# Altium footprint library 2-Battery Holders.PcbLib: 20 footprints (part 2 of 2)
Each footprint in its own frame and in the unit in brackets; x right, y up, seen from the top. Pads: shape width x height; smd on the part's side, far side on the other; paste and mask are expansions set on the pad; w line width, h text height; cw(c..) or ccw(c..) is an arc to the next point about the centre after c.
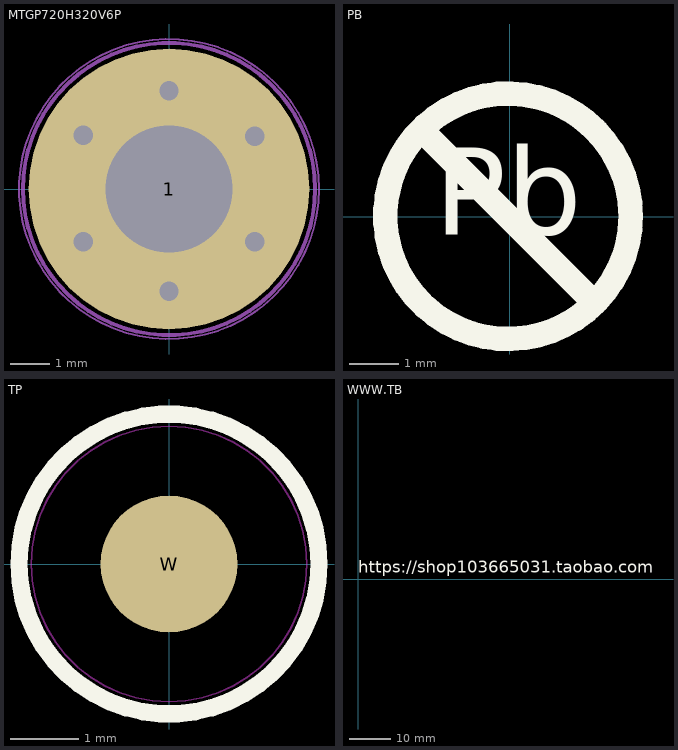
[diagram p1: the footprints below, top view; thin cyan lines are the x and y axes]

## MTGP720H320V6P [mm]
pads (1):
  round 7.2 hole 3.25: 1(0,0)
via 2.2,-1.35 diameter 1 hole 0.5
via 0,-2.625 diameter 1 hole 0.5
via 2.2,1.35 diameter 1 hole 0.5
via 0,2.525 diameter 1 hole 0.5
via -2.2,1.375 diameter 1 hole 0.5
via -2.2,-1.35 diameter 1 hole 0.5
Mechanical 8:
  circle w0.1: c0,0 r3.75
  circle w0.1: c0,0 r2.6
  lines w0.1: -2.657,1.625 -2.224,1.375 ; -2.632,-1.6 -2.199,-1.35 ; -2.474,0.942 -2.224,1.375 ; -2.449,-0.917 -2.199,-1.35 ; -1.974,1.808 -2.224,1.375 ; -1.949,-1.783 -2.199,-1.35 ; -1.791,1.125 -2.224,1.375 ; -1.766,-1.1 -2.199,-1.35 ; -0.5,-2.625 0,-2.625 ; -0.5,0 0,0 ; -0.5,2.525 0,2.525 ; 0,-3.125 0,-2.625 ; 0,-2.125 0,-2.625 ; 0,-0.5 0,0 ; 0,0.5 0,0 ; 0,2.025 0,2.525 ; 0,3.025 0,2.525 ; 0.5,-2.625 0,-2.625 ; 0.5,0 0,0 ; 0.5,2.525 0,2.525 ; 1.766,-1.1 2.199,-1.35 ; 1.766,1.1 2.199,1.35 ; 1.949,-1.783 2.199,-1.35 ; 1.949,1.783 2.199,1.35 ; 2.449,-0.917 2.199,-1.35 ; 2.449,0.917 2.199,1.35 ; 2.632,-1.6 2.199,-1.35 ; 2.632,1.6 2.199,1.35
Mechanical 14:
  circle w0.1: c0,0 r3.75
Mechanical 15:
  circle w0.05: c0,0 r3.85
3D body "mtgp720h320v6p.stp": height 0.1, standoff -1.75, extent -3.627,-3.627 3.628,3.628

## PB [mm]
Top Overlay:
  circle w0.5: c-0.031,0.013 r2.5
  lines w0.5: -1.737,1.719 1.675,-1.693
  text "Pb" at -1.536,-0.948 h3.05
3D body "pb.stp": height 0.02, standoff 0, extent -2.725,-2.725 2.725,2.725

## TP [mm]
height 11.7
pads (1):
  round 2 smd mask+1: W(0,0)
Top Overlay:
  circle w0.254: c0,0 r2.195
Keep-Out Layer:
  circle w0.025: c0,0 r2.017
3D body "1_016-1_016-3_tp.stp": height 0.02, standoff 0, extent -1.5,-1.5 1.5,1.5

## WWW.TB [mm]
height 11.7
Top Overlay:
  text "https://shop103665031.taobao.com" at 0,0.635 h5.11
3D body "wwwtb.stp": height 0.02, standoff 0, extent 0.049,0.25 60.945,4